# EAGLE library part ATMEGA16M1 (library bytewerk-uc)
8-Bit Microcontroller - 1x ADC - 1x CAN 2.0 A/B with 6 Message Objects - 1x LIN 2.1 and UART - 1x SPI - 1x 8-Bit Timer - 1x 16-Bit Timer - debugWIRE - Power Stage Controller
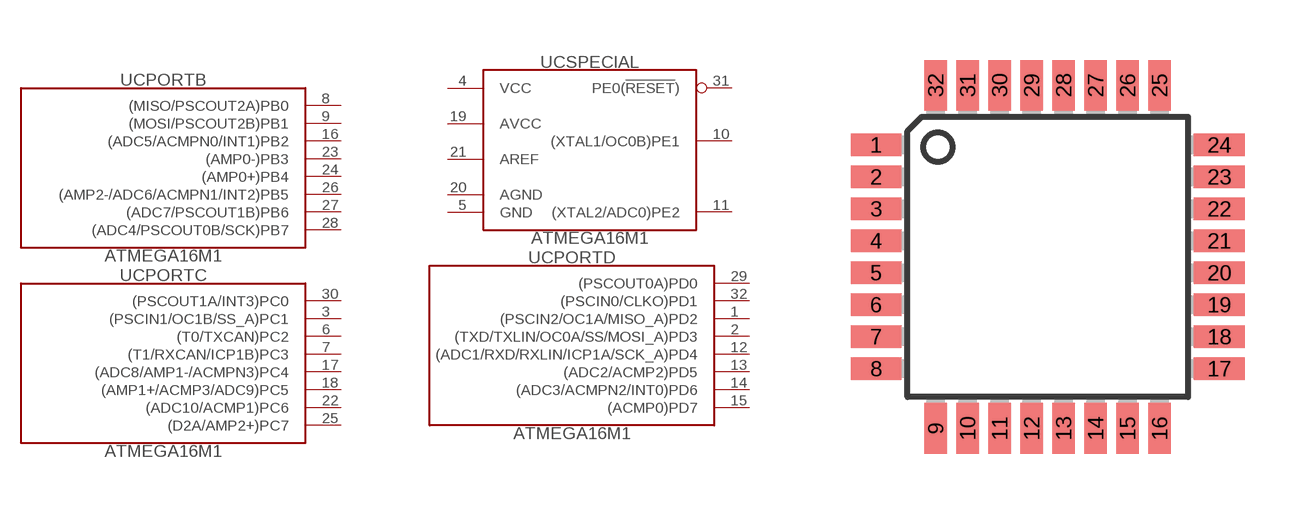
[diagram p2: symbol with the pads of TQFP32-08; footprint TQFP32-08]

Designator prefix UC; gates PORTD=ATMEGA16M1-PORTD SPECIAL=ATMEGA16M1-SPECIAL PORTB=ATMEGA16M1-PORTB PORTC=ATMEGA16M1-PORTC

## ATMEGA16M1  [TQFP32-08]
1  PORTD:(PSCIN2/OC1A/MISO_A)PD2
2  PORTD:(TXD/TXLIN/OC0A/SS/MOSI_A)PD3
3  PORTC:(PSCIN1/OC1B/SS_A)PC1
4  SPECIAL:VCC  pwr
5  SPECIAL:GND  pwr
6  PORTC:(T0/TXCAN)PC2
7  PORTC:(T1/RXCAN/ICP1B)PC3
8  PORTB:(MISO/PSCOUT2A)PB0
9  PORTB:(MOSI/PSCOUT2B)PB1
10  SPECIAL:(XTAL1/OC0B)PE1  pas
11  SPECIAL:(XTAL2/ADC0)PE2  pas
12  PORTD:(ADC1/RXD/RXLIN/ICP1A/SCK_A)PD4
13  PORTD:(ADC2/ACMP2)PD5
14  PORTD:(ADC3/ACMPN2/INT0)PD6
15  PORTD:(ACMP0)PD7
16  PORTB:(ADC5/ACMPN0/INT1)PB2
17  PORTC:(ADC8/AMP1-/ACMPN3)PC4
18  PORTC:(AMP1+/ACMP3/ADC9)PC5
19  SPECIAL:AVCC  pwr
20  SPECIAL:AGND  pwr
21  SPECIAL:AREF  pas
22  PORTC:(ADC10/ACMP1)PC6
23  PORTB:(AMP0-)PB3
24  PORTB:(AMP0+)PB4
25  PORTC:(D2A/AMP2+)PC7
26  PORTB:(AMP2-/ADC6/ACMPN1/INT2)PB5
27  PORTB:(ADC7/PSCOUT1B)PB6
28  PORTB:(ADC4/PSCOUT0B/SCK)PB7
29  PORTD:(PSCOUT0A)PD0
30  PORTC:(PSCOUT1A/INT3)PC0
31  SPECIAL:PE0(!RESET!)
32  PORTD:(PSCIN0/CLKO)PD1

## Footprint TQFP32-08 (pad centres in mm)
Thin Plasic Quad Flat Package Grid 0.8 mm
smd 1.27 x 0.559: 1 -4.293,2.8; 2 -4.293,2; 3 -4.293,1.2; 4 -4.293,0.4; 5 -4.293,-0.4; 6 -4.293,-1.2; 7 -4.293,-2; 8 -4.293,-2.8; 17 4.293,-2.8; 18 4.293,-2; 19 4.293,-1.2; 20 4.293,-0.4; 21 4.293,0.4; 22 4.293,1.2; 23 4.293,2; 24 4.293,2.8
smd 0.559 x 1.27: 9 -2.8,-4.293; 10 -2,-4.293; 11 -1.2,-4.293; 12 -0.4,-4.293; 13 0.4,-4.293; 14 1.2,-4.293; 15 2,-4.293; 16 2.8,-4.293; 25 2.8,4.293; 26 2,4.293; 27 1.2,4.293; 28 0.4,4.293; 29 -0.4,4.293; 30 -1.2,4.293; 31 -2,4.293; 32 -2.8,4.293